# EAGLE library part MCP42* (library IC_Data-Conversion)
7/8-Bit Single/Dual SPI Digital POT with Volatile Memory Datasheet <http://ww1.microchip.com/downloads/en/devicedoc/22060b.pdf>
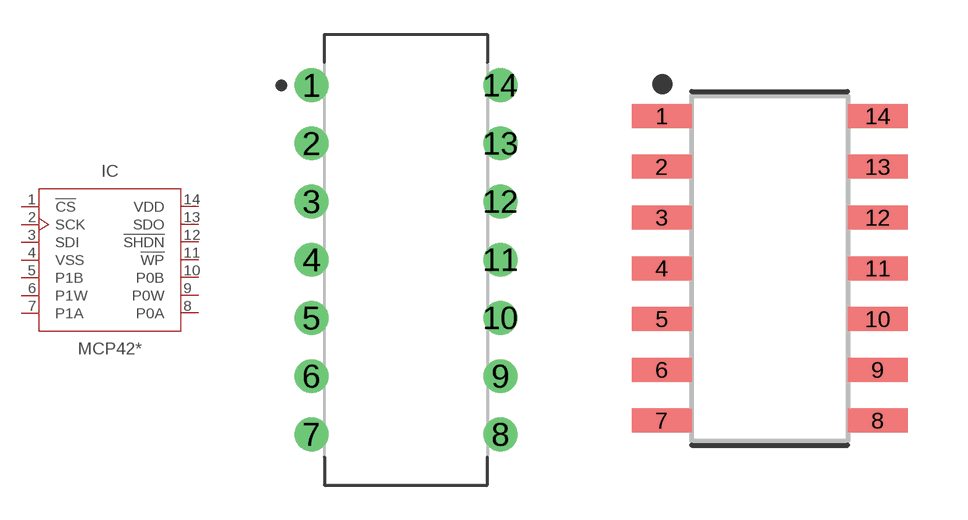
[diagram p11: symbol with the pads of DIP1092W55P254L1969H533Q14B; footprints DIP1092W55P254L1969H533Q14B, SOIC127P600X175-14N]

Designator prefix IC

## MCP4231-103E/PPDIP-14 (CATEGORY: IC_Data-Conversion; DESCRIPTION: 7/8-Bit Single/Dual SPI Digital POT with Volatile Memory; MANUFACTURER: Microchip Technology; MPN: MCP4231-103E/P; OPERATING_TEMPERATURE: -40°C ~ 125°C; PART_STATUS: ACTIVE; ROHS_COMPLIANT: COMPLIANT; SERIES: MCP42X; SUB_CATEGORY: Digital Potentiometer; THERMALLOSS: 0.4 W; VALUE: MCP4231-103E/P), MCP4231-104E/PPDIP-14 (CATEGORY: IC_Data-Conversion; DESCRIPTION: 7/8-Bit Single/Dual SPI Digital POT with Volatile Memory; MANUFACTURER: Microchip Technology; MPN: MCP4231-104E/P; OPERATING_TEMPERATURE: -40°C ~ 125°C; PART_STATUS: ACTIVE; ROHS_COMPLIANT: COMPLIANT; SERIES: MCP42X; SUB_CATEGORY: Digital Potentiometer; THERMALLOSS: 0.4 W; VALUE: MCP4231-104E/P), MCP4231-502E/PPDIP-14 (CATEGORY: IC_Data-Conversion; DESCRIPTION: 7/8-Bit Single/Dual SPI Digital POT with Volatile Memory; MANUFACTURER: Microchip Technology; MPN: MCP4231-502E/P; OPERATING_TEMPERATURE: -40°C ~ 125°C; PART_STATUS: ACTIVE; ROHS_COMPLIANT: COMPLIANT; SERIES: MCP42X; SUB_CATEGORY: Digital Potentiometer; THERMALLOSS: 0.4 W; VALUE: MCP4231-502E/P), MCP4231-503E/PPDIP-14 (CATEGORY: IC_Data-Conversion; DESCRIPTION: 7/8-Bit Single/Dual SPI Digital POT with Volatile Memory; MANUFACTURER: Microchip Technology; MPN: MCP4231-503E/P; OPERATING_TEMPERATURE: -40°C ~ 125°C; PART_STATUS: ACTIVE; ROHS_COMPLIANT: COMPLIANT; SERIES: MCP42X; SUB_CATEGORY: Digital Potentiometer; THERMALLOSS: 0.4 W; VALUE: MCP4231-503E/P), MCP4241-103E/PPDIP-14 (CATEGORY: IC_Data-Conversion; DESCRIPTION: 7/8-Bit Single/Dual SPI Digital POT with Volatile Memory; MANUFACTURER: Microchip Technology; MPN: MCP4241-103E/P; OPERATING_TEMPERATURE: -40°C ~ 125°C; PART_STATUS: ACTIVE; ROHS_COMPLIANT: COMPLIANT; SERIES: MCP42X; SUB_CATEGORY: Digital Potentiometer; THERMALLOSS: 0.4 W; VALUE: MCP4241-103E/P), MCP4241-104E/PPDIP-14 (CATEGORY: IC_Data-Conversion; DESCRIPTION: 7/8-Bit Single/Dual SPI Digital POT with Volatile Memory; MANUFACTURER: Microchip Technology; MPN: MCP4241-104E/P; OPERATING_TEMPERATURE: -40°C ~ 125°C; PART_STATUS: ACTIVE; ROHS_COMPLIANT: COMPLIANT; SERIES: MCP42X; SUB_CATEGORY: Digital Potentiometer; THERMALLOSS: 0.4 W; VALUE: MCP4241-104E/P), MCP4241-502E/PPDIP-14 (CATEGORY: IC_Data-Conversion; DESCRIPTION: 7/8-Bit Single/Dual SPI Digital POT with Volatile Memory; MANUFACTURER: Microchip Technology; MPN: MCP4241-502E/P; OPERATING_TEMPERATURE: -40°C ~ 125°C; PART_STATUS: ACTIVE; ROHS_COMPLIANT: COMPLIANT; SERIES: MCP42X; SUB_CATEGORY: Digital Potentiometer; THERMALLOSS: 0.4 W; VALUE: MCP4241-502E/P), MCP4241-503E/PPDIP-14 (CATEGORY: IC_Data-Conversion; DESCRIPTION: 7/8-Bit Single/Dual SPI Digital POT with Volatile Memory; MANUFACTURER: Microchip Technology; MPN: MCP4241-503E/P; OPERATING_TEMPERATURE: -40°C ~ 125°C; PART_STATUS: ACTIVE; ROHS_COMPLIANT: COMPLIANT; SERIES: MCP42X; SUB_CATEGORY: Digital Potentiometer; THERMALLOSS: 0.4 W; VALUE: MCP4241-503E/P), MCP4251-103E/PPDIP-14 (CATEGORY: IC_Data-Conversion; DESCRIPTION: 7/8-Bit Single/Dual SPI Digital POT with Volatile Memory; MANUFACTURER: Microchip Technology; MPN: MCP4251-103E/P; OPERATING_TEMPERATURE: -40°C ~ 125°C; PART_STATUS: ACTIVE; ROHS_COMPLIANT: COMPLIANT; SERIES: MCP42X; SUB_CATEGORY: Digital Potentiometer; THERMALLOSS: 0.4 W; VALUE: MCP4251-103E/P), MCP4251-104E/PPDIP-14 (CATEGORY: IC_Data-Conversion; DESCRIPTION: 7/8-Bit Single/Dual SPI Digital POT with Volatile Memory; MANUFACTURER: Microchip Technology; MPN: MCP4251-104E/P; OPERATING_TEMPERATURE: -40°C ~ 125°C; PART_STATUS: ACTIVE; ROHS_COMPLIANT: COMPLIANT; SERIES: MCP42X; SUB_CATEGORY: Digital Potentiometer; THERMALLOSS: 0.4 W; VALUE: MCP4251-104E/P), MCP4251-502E/PPDIP-14 (CATEGORY: IC_Data-Conversion; DESCRIPTION: 7/8-Bit Single/Dual SPI Digital POT with Volatile Memory; MANUFACTURER: Microchip Technology; MPN: MCP4251-502E/P; OPERATING_TEMPERATURE: -40°C ~ 125°C; PART_STATUS: ACTIVE; ROHS_COMPLIANT: COMPLIANT; SERIES: MCP42X; SUB_CATEGORY: Digital Potentiometer; THERMALLOSS: 0.4 W; VALUE: MCP4251-502E/P), MCP4251-503E/PPDIP-14 (CATEGORY: IC_Data-Conversion; DESCRIPTION: 7/8-Bit Single/Dual SPI Digital POT with Volatile Memory; MANUFACTURER: Microchip Technology; MPN: MCP4251-503E/P; OPERATING_TEMPERATURE: -40°C ~ 125°C; PART_STATUS: ACTIVE; ROHS_COMPLIANT: COMPLIANT; SERIES: MCP42X; SUB_CATEGORY: Digital Potentiometer; THERMALLOSS: 0.4 W; VALUE: MCP4251-503E/P), MCP4261-103E/PPDIP-14 (CATEGORY: IC_Data-Conversion; DESCRIPTION: 7/8-Bit Single/Dual SPI Digital POT with Volatile Memory; MANUFACTURER: Microchip Technology; MPN: MCP4261-103E/P; OPERATING_TEMPERATURE: -40°C ~ 125°C; PART_STATUS: ACTIVE; ROHS_COMPLIANT: COMPLIANT; SERIES: MCP42X; SUB_CATEGORY: Digital Potentiometer; THERMALLOSS: 0.4 W; VALUE: MCP4261-103E/P), MCP4261-104E/PPDIP-14 (CATEGORY: IC_Data-Conversion; DESCRIPTION: 7/8-Bit Single/Dual SPI Digital POT with Volatile Memory; MANUFACTURER: Microchip Technology; MPN: MCP4261-104E/P; OPERATING_TEMPERATURE: -40°C ~ 125°C; PART_STATUS: ACTIVE; ROHS_COMPLIANT: COMPLIANT; SERIES: MCP42X; SUB_CATEGORY: Digital Potentiometer; THERMALLOSS: 0.4 W; VALUE: MCP4261-104E/P), MCP4261-502E/PPDIP-14 (CATEGORY: IC_Data-Conversion; DESCRIPTION: 7/8-Bit Single/Dual SPI Digital POT with Volatile Memory; MANUFACTURER: Microchip Technology; MPN: MCP4261-502E/P; OPERATING_TEMPERATURE: -40°C ~ 125°C; PART_STATUS: ACTIVE; ROHS_COMPLIANT: COMPLIANT; SERIES: MCP42X; SUB_CATEGORY: Digital Potentiometer; THERMALLOSS: 0.4 W; VALUE: MCP4261-502E/P), MCP4261-503E/PPDIP-14 (CATEGORY: IC_Data-Conversion; DESCRIPTION: 7/8-Bit Single/Dual SPI Digital POT with Volatile Memory; MANUFACTURER: Microchip Technology; MPN: MCP4261-503E/P; OPERATING_TEMPERATURE: -40°C ~ 125°C; PART_STATUS: ACTIVE; ROHS_COMPLIANT: COMPLIANT; SERIES: MCP42X; SUB_CATEGORY: Digital Potentiometer; THERMALLOSS: 0.4 W; VALUE: MCP4261-503E/P)  [DIP1092W55P254L1969H533Q14B]
1  !CS  in
2  SCK  in
3  SDI  in
4  VSS  pwr
5  P1B
6  P1W
7  P1A
8  P0A
9  P0W
10  P0B
11  !WP
12  !SHDN  in
13  SDO
14  VDD  pwr

## MCP4231-103E/SLSOIC-14 (CATEGORY: IC_Data-Conversion; MANUFACTURER: Microchip Technology; MPN: MCP4231-103E/SL; OPERATING_TEMPERATURE: -40°C ~ 125°C; PART_STATUS: ACTIVE; ROHS_COMPLIANT: COMPLIANT; SERIES: MCP42X; SUB_CATEGORY: Digital Potentiometer; THERMALLOSS: 0.4 W; VALUE: MCP4231-103E/SL), MCP4231-104E/SLSOIC-14 (CATEGORY: IC_Data-Conversion; MANUFACTURER: Microchip Technology; MPN: MCP4231-104E/SL; OPERATING_TEMPERATURE: -40°C ~ 125°C; PART_STATUS: ACTIVE; ROHS_COMPLIANT: COMPLIANT; SERIES: MCP42X; SUB_CATEGORY: Digital Potentiometer; THERMALLOSS: 0.4 W; VALUE: MCP4231-104E/SL), MCP4231-502E/SLSOIC-14 (CATEGORY: IC_Data-Conversion; MANUFACTURER: Microchip Technology; MPN: MCP4231-502E/SL; OPERATING_TEMPERATURE: -40°C ~ 125°C; PART_STATUS: ACTIVE; ROHS_COMPLIANT: COMPLIANT; SERIES: MCP42X; SUB_CATEGORY: Digital Potentiometer; THERMALLOSS: 0.4 W; VALUE: MCP4231-502E/SL), MCP4231-503E/SLSOIC-14 (CATEGORY: IC_Data-Conversion; MANUFACTURER: Microchip Technology; MPN: MCP4231-503E/SL; OPERATING_TEMPERATURE: -40°C ~ 125°C; PART_STATUS: ACTIVE; ROHS_COMPLIANT: COMPLIANT; SERIES: MCP42X; SUB_CATEGORY: Digital Potentiometer; THERMALLOSS: 0.4 W; VALUE: MCP4231-503E/SL), MCP4241-103E/SLSOIC-14 (CATEGORY: IC_Data-Conversion; MANUFACTURER: Microchip Technology; MPN: MCP4241-103E/SL; OPERATING_TEMPERATURE: -40°C ~ 125°C; PART_STATUS: ACTIVE; ROHS_COMPLIANT: COMPLIANT; SERIES: MCP42X; SUB_CATEGORY: Digital Potentiometer; THERMALLOSS: 0.4 W; VALUE: MCP4241-103E/SL), MCP4241-104E/SLSOIC-14 (CATEGORY: IC_Data-Conversion; MANUFACTURER: Microchip Technology; MPN: MCP4241-104E/SL; OPERATING_TEMPERATURE: -40°C ~ 125°C; PART_STATUS: ACTIVE; ROHS_COMPLIANT: COMPLIANT; SERIES: MCP42X; SUB_CATEGORY: Digital Potentiometer; THERMALLOSS: 0.4 W; VALUE: MCP4241-104E/SL), MCP4241-502E/SLSOIC-14 (CATEGORY: IC_Data-Conversion; MANUFACTURER: Microchip Technology; MPN: MCP4241-502E/SL; OPERATING_TEMPERATURE: -40°C ~ 125°C; PART_STATUS: ACTIVE; ROHS_COMPLIANT: COMPLIANT; SERIES: MCP42X; SUB_CATEGORY: Digital Potentiometer; THERMALLOSS: 0.4 W; VALUE: MCP4241-502E/SL), MCP4241-503E/SLSOIC-14 (CATEGORY: IC_Data-Conversion; MANUFACTURER: Microchip Technology; MPN: MCP4241-503E/SL; OPERATING_TEMPERATURE: -40°C ~ 125°C; PART_STATUS: ACTIVE; ROHS_COMPLIANT: COMPLIANT; SERIES: MCP42X; SUB_CATEGORY: Digital Potentiometer; THERMALLOSS: 0.4 W; VALUE: MCP4241-503E/SL), MCP4251-103E/SLSOIC-14 (CATEGORY: IC_Data-Conversion; MANUFACTURER: Microchip Technology; MPN: MCP4251-103E/SL; OPERATING_TEMPERATURE: -40°C ~ 125°C; PART_STATUS: ACTIVE; ROHS_COMPLIANT: COMPLIANT; SERIES: MCP42X; SUB_CATEGORY: Digital Potentiometer; THERMALLOSS: 0.4 W; VALUE: MCP4251-103E/SL), MCP4251-104E/SLSOIC-14 (CATEGORY: IC_Data-Conversion; MANUFACTURER: Microchip Technology; MPN: MCP4251-104E/SL; OPERATING_TEMPERATURE: -40°C ~ 125°C; PART_STATUS: ACTIVE; ROHS_COMPLIANT: COMPLIANT; SERIES: MCP42X; SUB_CATEGORY: Digital Potentiometer; THERMALLOSS: 0.4 W; VALUE: MCP4251-104E/SL), MCP4251-502E/SLSOIC-14 (CATEGORY: IC_Data-Conversion; MANUFACTURER: Microchip Technology; MPN: MCP4251-502E/SL; OPERATING_TEMPERATURE: -40°C ~ 125°C; PART_STATUS: ACTIVE; ROHS_COMPLIANT: COMPLIANT; SERIES: MCP42X; SUB_CATEGORY: Digital Potentiometer; THERMALLOSS: 0.4 W; VALUE: MCP4251-502E/SL), MCP4251-503E/SLSOIC-14 (CATEGORY: IC_Data-Conversion; MANUFACTURER: Microchip Technology; MPN: MCP4251-503E/SL; OPERATING_TEMPERATURE: -40°C ~ 125°C; PART_STATUS: ACTIVE; ROHS_COMPLIANT: COMPLIANT; SERIES: MCP42X; SUB_CATEGORY: Digital Potentiometer; THERMALLOSS: 0.4 W; VALUE: MCP4251-503E/SL), MCP4261-103E/SLSOIC-14 (CATEGORY: IC_Data-Conversion; MANUFACTURER: Microchip Technology; MPN: MCP4261-103E/SL; OPERATING_TEMPERATURE: -40°C ~ 125°C; PART_STATUS: ACTIVE; ROHS_COMPLIANT: COMPLIANT; SERIES: MCP42X; SUB_CATEGORY: Digital Potentiometer; THERMALLOSS: 0.4 W; VALUE: MCP4261-103E/SL), MCP4261-104E/SLSOIC-14 (CATEGORY: IC_Data-Conversion; MANUFACTURER: Microchip Technology; MPN: MCP4261-104E/SL; OPERATING_TEMPERATURE: -40°C ~ 125°C; PART_STATUS: ACTIVE; ROHS_COMPLIANT: COMPLIANT; SERIES: MCP42X; SUB_CATEGORY: Digital Potentiometer; THERMALLOSS: 0.4 W; VALUE: MCP4261-104E/SL), MCP4261-502E/SLSOIC-14 (CATEGORY: IC_Data-Conversion; MANUFACTURER: Microchip Technology; MPN: MCP4261-502E/SL; OPERATING_TEMPERATURE: -40°C ~ 125°C; PART_STATUS: ACTIVE; ROHS_COMPLIANT: COMPLIANT; SERIES: MCP42X; SUB_CATEGORY: Digital Potentiometer; THERMALLOSS: 0.4 W; VALUE: MCP4261-502E/SL), MCP4261-503E/SLSOIC-14 (CATEGORY: IC_Data-Conversion; MANUFACTURER: Microchip Technology; MPN: MCP4261-503E/SL; OPERATING_TEMPERATURE: -40°C ~ 125°C; PART_STATUS: ACTIVE; ROHS_COMPLIANT: COMPLIANT; SERIES: MCP42X; SUB_CATEGORY: Digital Potentiometer; THERMALLOSS: 0.4 W; VALUE: MCP4261-503E/SL)  [SOIC127P600X175-14N]
Pads as for DIP1092W55P254L1969H533Q14B

## MCP4231-103E/STTSSOP-14 (CATEGORY: IC_Data-Conversion; DESCRIPTION: 7/8-Bit Single/Dual SPI Digital POT with Volatile Memory; MANUFACTURER: Microchip Technology; MPN: MCP4231-103E/ST; OPERATIN_TEMP: -40°C to 125°C; PART_STATUS: Active; ROHS_COMPLIANT: COMPLIANT; SERIES: MCP42X; SUB-CATEGORY: Digital Potentiometer; THERMALLOSS: 0.4 W; VALUE: MCP4231-103E/ST), MCP4231-104E/STTSSOP-14 (CATEGORY: IC_Data-Conversion; DESCRIPTION: 7/8-Bit Single/Dual SPI Digital POT with Volatile Memory; MANUFACTURER: Microchip Technology; MPN: MCP4231-104E/ST; OPERATIN_TEMP: -40°C to 125°C; PART_STATUS: Active; ROHS_COMPLIANT: COMPLIANT; SERIES: MCP42X; SUB-CATEGORY: Digital Potentiometer; THERMALLOSS: 0.4 W; VALUE: MCP4231-104E/ST), MCP4231-502E/STTSSOP-14 (CATEGORY: IC_Data-Conversion; DESCRIPTION: 7/8-Bit Single/Dual SPI Digital POT with Volatile Memory; MANUFACTURER: Microchip Technology; MPN: MCP4231T-502E/ST; OPERATIN_TEMP: -40°C to 125°C; PART_STATUS: Active; ROHS_COMPLIANT: COMPLIANT; SERIES: MCP42X; SUB-CATEGORY: Digital Potentiometer; THERMALLOSS: 0.4 W; VALUE: MCP4231T-502E/ST), MCP4231-503E/STTSSOP-14 (CATEGORY: IC_Data-Conversion; DESCRIPTION: 7/8-Bit Single/Dual SPI Digital POT with Volatile Memory; MANUFACTURER: Microchip Technology; MPN: MCP4231-503E/ST; OPERATIN_TEMP: -40°C to 125°C; PART_STATUS: Active; ROHS_COMPLIANT: COMPLIANT; SERIES: MCP42X; SUB-CATEGORY: Digital Potentiometer; THERMALLOSS: 0.4 W; VALUE: MCP4231-503E/ST), MCP4231T-103E/STTSSOP-14 (CATEGORY: IC_Data-Conversion; DESCRIPTION: 7/8-Bit Single/Dual SPI Digital POT with Volatile Memory; MANUFACTURER: Microchip Technology; MPN: MCP4231T-103E/ST; OPERATIN_TEMP: -40°C to 125°C; PART_STATUS: Active; ROHS_COMPLIANT: COMPLIANT; SERIES: MCP42X; SUB-CATEGORY: Digital Potentiometer; THERMALLOSS: 0.4 W; VALUE: MCP4231T-103E/ST), MCP4231T-104E/STTSSOP-14 (CATEGORY: IC_Data-Conversion; DESCRIPTION: 7/8-Bit Single/Dual SPI Digital POT with Volatile Memory; MANUFACTURER: Microchip Technology; MPN: MCP4231T-104E/ST; OPERATIN_TEMP: -40°C to 125°C; PART_STATUS: Active; ROHS_COMPLIANT: COMPLIANT; SERIES: MCP42X; SUB-CATEGORY: Digital Potentiometer; THERMALLOSS: 0.4 W; VALUE: MCP4231T-104E/ST), MCP4231T-502E/STTSSOP-14 (CATEGORY: IC_Data-Conversion; DESCRIPTION: 7/8-Bit Single/Dual SPI Digital POT with Volatile Memory; MANUFACTURER: Microchip Technology; MPN: MCP4231-502E/ST; OPERATIN_TEMP: -40°C to 125°C; PART_STATUS: Active; ROHS_COMPLIANT: COMPLIANT; SERIES: MCP42X; SUB-CATEGORY: Digital Potentiometer; THERMALLOSS: 0.4 W; VALUE: MCP4231-502E/ST), MCP4231T-503E/STTSSOP-14 (CATEGORY: IC_Data-Conversion; DESCRIPTION: 7/8-Bit Single/Dual SPI Digital POT with Volatile Memory; MANUFACTURER: Microchip Technology; MPN: MCP4231T-503E/ST; OPERATIN_TEMP: -40°C to 125°C; PART_STATUS: Active; ROHS_COMPLIANT: COMPLIANT; SERIES: MCP42X; SUB-CATEGORY: Digital Potentiometer; THERMALLOSS: 0.4 W; VALUE: MCP4231T-503E/ST), MCP4251-103E/STTSSOP-14 (CATEGORY: IC_Data-Conversion; DESCRIPTION: 7/8-Bit Single/Dual SPI Digital POT with Volatile Memory; MANUFACTURER: Microchip Technology; MPN: MCP4251-103E/ST; OPERATIN_TEMP: -40°C to 125°C; PART_STATUS: Active; ROHS_COMPLIANT: COMPLIANT; SERIES: MCP42X; SUB-CATEGORY: Digital Potentiometer; THERMALLOSS: 0.4 W; VALUE: MCP4251-103E/ST), MCP4251-104E/STTSSOP-14 (CATEGORY: IC_Data-Conversion; DESCRIPTION: 7/8-Bit Single/Dual SPI Digital POT with Volatile Memory; MANUFACTURER: Microchip Technology; MPN: MCP4251-104E/ST; OPERATIN_TEMP: -40°C to 125°C; PART_STATUS: Active; ROHS_COMPLIANT: COMPLIANT; SERIES: MCP42X; SUB-CATEGORY: Digital Potentiometer; THERMALLOSS: 0.4 W; VALUE: MCP4251-104E/ST), MCP4251-502E/STTSSOP-14 (CATEGORY: IC_Data-Conversion; DESCRIPTION: 7/8-Bit Single/Dual SPI Digital POT with Volatile Memory; MANUFACTURER: Microchip Technology; MPN: MCP4251-502E/ST; OPERATIN_TEMP: -40°C to 125°C; PART_STATUS: Active; ROHS_COMPLIANT: COMPLIANT; SERIES: MCP42X; SUB-CATEGORY: Digital Potentiometer; THERMALLOSS: 0.4 W; VALUE: MCP4251-502E/ST), MCP4251-503E/STTSSOP-14 (CATEGORY: IC_Data-Conversion; DESCRIPTION: 7/8-Bit Single/Dual SPI Digital POT with Volatile Memory; MANUFACTURER: Microchip Technology; MPN: MCP4251-503E/ST; OPERATIN_TEMP: -40°C to 125°C; PART_STATUS: Active; ROHS_COMPLIANT: COMPLIANT; SERIES: MCP42X; SUB-CATEGORY: Digital Potentiometer; THERMALLOSS: 0.4 W; VALUE: MCP4251-503E/ST), MCP4251T-103E/STTSSOP-14 (CATEGORY: IC_Data-Conversion; DESCRIPTION: 7/8-Bit Single/Dual SPI Digital POT with Volatile Memory; MANUFACTURER: Microchip Technology; MPN: MCP4251T-103E/ST; OPERATIN_TEMP: -40°C to 125°C; PART_STATUS: Active; ROHS_COMPLIANT: COMPLIANT; SERIES: MCP42X; SUB-CATEGORY: Digital Potentiometer; THERMALLOSS: 0.4 W; VALUE: MCP4251T-103E/ST), MCP4251T-104E/STTSSOP-14 (CATEGORY: IC_Data-Conversion; DESCRIPTION: 7/8-Bit Single/Dual SPI Digital POT with Volatile Memory; MANUFACTURER: Microchip Technology; MPN: MCP4251T-104E/ST; OPERATIN_TEMP: -40°C to 125°C; PART_STATUS: Active; ROHS_COMPLIANT: COMPLIANT; SERIES: MCP42X; SUB-CATEGORY: Digital Potentiometer; THERMALLOSS: 0.4 W; VALUE: MCP4251T-104E/ST), MCP4251T-502E/STTSSOP-14 (CATEGORY: IC_Data-Conversion; DESCRIPTION: 7/8-Bit Single/Dual SPI Digital POT with Volatile Memory; MANUFACTURER: Microchip Technology; MPN: MCP4251T-502E/ST; OPERATIN_TEMP: -40°C to 125°C; PART_STATUS: Active; ROHS_COMPLIANT: COMPLIANT; SERIES: MCP42X; SUB-CATEGORY: Digital Potentiometer; THERMALLOSS: 0.4 W; VALUE: MCP4251T-502E/ST), MCP4251T-503E/STTSSOP-14 (CATEGORY: IC_Data-Conversion; DESCRIPTION: 7/8-Bit Single/Dual SPI Digital POT with Volatile Memory; MANUFACTURER: Microchip Technology; MPN: MCP4251T-503E/ST; OPERATIN_TEMP: -40°C to 125°C; PART_STATUS: Active; ROHS_COMPLIANT: COMPLIANT; SERIES: MCP42X; SUB-CATEGORY: Digital Potentiometer; THERMALLOSS: 0.4 W; VALUE: MCP4251T-503E/ST)  [SOP65P640X120-14]
Pads as for DIP1092W55P254L1969H533Q14B

## Footprint DIP1092W55P254L1969H533Q14B (pad centres in mm)
14-DIP, 2.54 mm (0.10 in) pitch, 10.92 mm (0.43 in) span, 19.69 X 7.11 X 5.33 mm body 14-pin DIP package with 2.54 mm (0.10 in) pitch, 10.92 mm (0.43 in) span with body size 19.69 X 7.11 X 5.33 mm
drill 0.876 pad 1.476: 1 -4.125,7.62; 2 -4.125,5.08; 3 -4.125,2.54; 4 -4.125,0; 5 -4.125,-2.54; 6 -4.125,-5.08; 7 -4.125,-7.62; 8 4.125,-7.62; 9 4.125,-5.08; 10 4.125,-2.54; 11 4.125,0; 12 4.125,2.54; 13 4.125,5.08; 14 4.125,7.62

## Footprint SOIC127P600X175-14N (pad centres in mm)
14-SOIC, 1.27 mm pitch, 6.00 mm span, 8.65 X 3.90 X 1.75 mm body 14-pin SOIC package with 1.27 mm pitch, 6.00 mm span with body size 8.65 X 3.90 X 1.75 mm
smd 1.5 x 0.6: 1 -2.7,3.81; 2 -2.7,2.54; 3 -2.7,1.27; 4 -2.7,0; 5 -2.7,-1.27; 6 -2.7,-2.54; 7 -2.7,-3.81; 8 2.7,-3.81; 9 2.7,-2.54; 10 2.7,-1.27; 11 2.7,0; 12 2.7,1.27; 13 2.7,2.54; 14 2.7,3.81

## Footprint SOP65P640X120-14 (pad centres in mm)
14-SOP, 0.65 mm pitch, 6.40 mm span, 5.00 X 4.40 X 1.20 mm body 14-pin SOP package with 0.65 mm pitch, 6.40 mm span with body size 5.00 X 4.40 X 1.20 mm
smd 1.45 x 0.45: 1 -2.95,1.95; 2 -2.95,1.3; 3 -2.95,0.65; 4 -2.95,0; 5 -2.95,-0.65; 6 -2.95,-1.3; 7 -2.95,-1.95; 8 2.95,-1.95; 9 2.95,-1.3; 10 2.95,-0.65; 11 2.95,0; 12 2.95,0.65; 13 2.95,1.3; 14 2.95,1.95